# Altium footprint library PAD_3.2mm.PcbLib: 1 footprints
Each footprint in its own frame and in the unit in brackets; x right, y up, seen from the top. Pads: shape width x height; smd on the part's side, far side on the other; paste and mask are expansions set on the pad; w line width, h text height; cw(c..) or ccw(c..) is an arc to the next point about the centre after c.
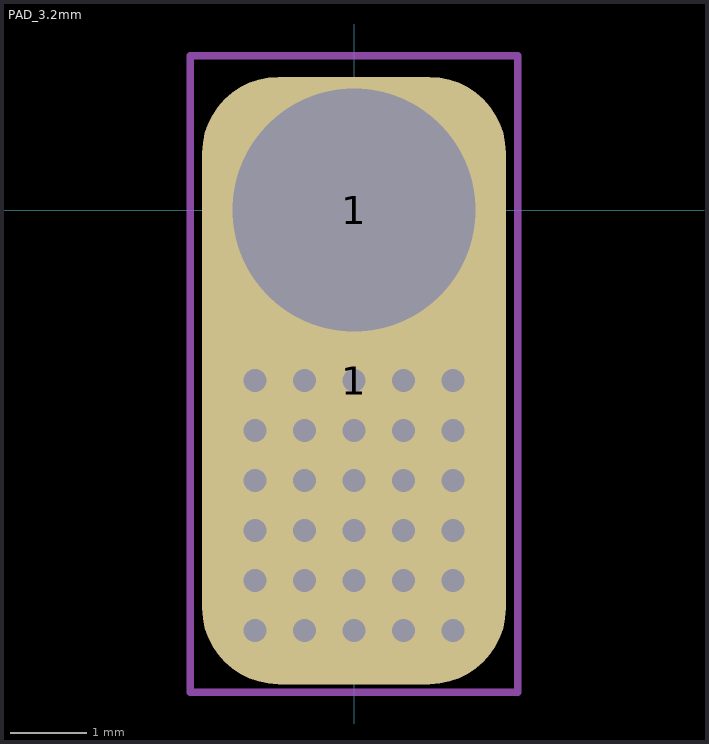
[diagram p0: the footprint, top view; thin cyan lines are the x and y axes]

## PAD_3.2mm [mm]
pads (2):
  rrect50% 4x8 smd: 1(0,-2.246)
  rrect50% 3.5x3.5 hole 3.2: 1(0,0)
via -0.652,-5.539 diameter 0.6 hole 0.3
via -1.305,-5.539 diameter 0.6 hole 0.3
via 0,-5.539 diameter 0.6 hole 0.3
via 0.652,-5.539 diameter 0.6 hole 0.3
via 1.305,-5.539 diameter 0.6 hole 0.3
via -0.652,-4.881 diameter 0.6 hole 0.3
via -1.305,-4.881 diameter 0.6 hole 0.3
via 0,-4.881 diameter 0.6 hole 0.3
via 0.652,-4.881 diameter 0.6 hole 0.3
via 1.305,-4.881 diameter 0.6 hole 0.3
via -0.652,-4.222 diameter 0.6 hole 0.3
via -1.305,-4.222 diameter 0.6 hole 0.3
via 0,-4.222 diameter 0.6 hole 0.3
via 0.652,-4.222 diameter 0.6 hole 0.3
via 1.305,-4.222 diameter 0.6 hole 0.3
via -0.652,-3.563 diameter 0.6 hole 0.3
via -1.305,-3.563 diameter 0.6 hole 0.3
via 0,-3.563 diameter 0.6 hole 0.3
via 0.652,-3.563 diameter 0.6 hole 0.3
via 1.305,-3.563 diameter 0.6 hole 0.3
via 1.305,-2.246 diameter 0.6 hole 0.3
via 1.305,-2.905 diameter 0.6 hole 0.3
via 0.652,-2.246 diameter 0.6 hole 0.3
via 0.652,-2.905 diameter 0.6 hole 0.3
via 0,-2.246 diameter 0.6 hole 0.3
via 0,-2.905 diameter 0.6 hole 0.3
via -1.305,-2.905 diameter 0.6 hole 0.3
via -1.305,-2.246 diameter 0.6 hole 0.3
via -0.652,-2.905 diameter 0.6 hole 0.3
via -0.652,-2.246 diameter 0.6 hole 0.3
Top Courtyard:
  lines w0.1: -2.159,-6.35 2.159,-6.35 2.159,2.032 -2.159,2.032 -2.159,-6.35